# Altium footprint library ULN2803ADWR.PcbLib: 4 footprints
Each footprint in its own frame and in the unit in brackets; x right, y up, seen from the top. Pads: shape width x height; smd on the part's side, far side on the other; paste and mask are expansions set on the pad; w line width, h text height; cw(c..) or ccw(c..) is an arc to the next point about the centre after c.
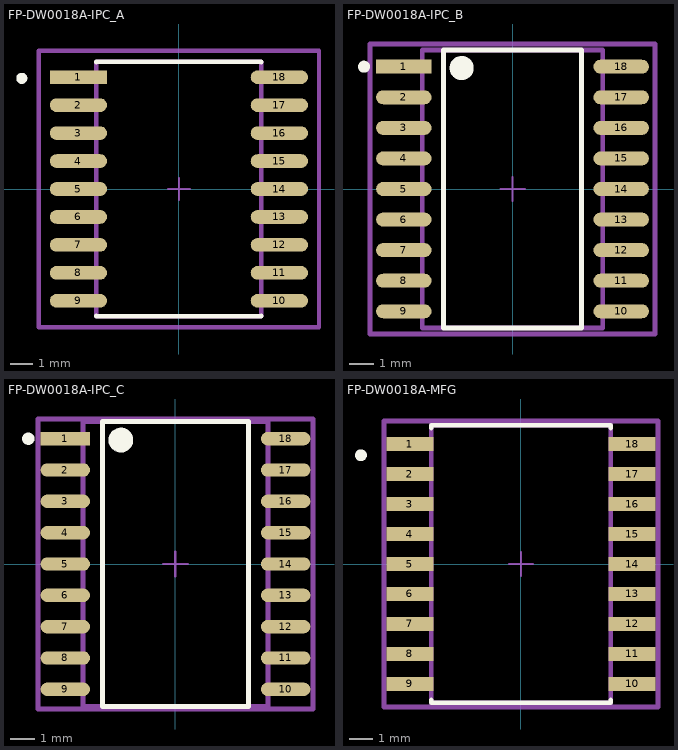
[diagram p0: the footprints below, top view; thin cyan lines are the x and y axes]

## FP-DW0018A-IPC_A [mil]
pads (18):
  rect 102.47x24.49 smd paste+0 mask+0: 1(-179.74,200)
  rrect100% 102.47x24.49 smd paste+0 mask+0: 2(-179.74,150) 3(-179.74,100) 4(-179.74,50) 5(-179.74,0) 6(-179.74,-50) 7(-179.74,-100) 8(-179.74,-150) 9(-179.74,-200) 10(179.74,-200) 11(179.74,-150) 12(179.74,-100) 13(179.74,-50) 14(179.74,0) 15(179.74,50) 16(179.74,100) 17(179.74,150) 18(179.74,200)
Top Overlay:
  circle w9.84: c-281.18,198.03 r4.92
  lines w7.87: -147.64,-227.01 -147.64,-227.36 147.64,-227.36 147.64,-227.01 ; -147.64,227.01 -147.64,227.36 147.64,227.36 147.64,227.01
Top Assembly:
  lines w7.87: -250.66,-247.05 250.66,-247.05 250.66,247.05 -250.66,247.05 -250.66,-247.05
  text ".Designator" at 0,7.4 h39.37
Top 3D Body:
  lines w7.87: -147.64,-227.36 147.64,-227.36 147.64,227.36 -147.64,227.36 -147.64,-227.36
Top Courtyard:
  lines w7.87: -250.66,-247.05 250.66,-247.05 250.66,247.05 -250.66,247.05 -250.66,-247.05
Top Component Center:
  lines w3.94: -19.68,0 19.68,0 ; 0,-19.68 0,19.68
3D body "IC_Texas_Instruments_ULN2803ADWRG4_eec.STEP": height 10, standoff 0, extent -250.66,-247.05 250.66,247.05

## FP-DW0018A-IPC_B [mil]
pads (18):
  rect 90.66x22.92 smd paste+0 mask+0: 1(-177.78,200)
  rrect100% 90.66x22.92 smd paste+0 mask+0: 2(-177.78,150) 3(-177.78,100) 4(-177.78,50) 5(-177.78,0) 6(-177.78,-50) 7(-177.78,-100) 8(-177.78,-150) 9(-177.78,-200) 10(177.78,-200) 11(177.78,-150) 12(177.78,-100) 13(177.78,-50) 14(177.78,0) 15(177.78,50) 16(177.78,100) 17(177.78,150) 18(177.78,200)
Top Overlay:
  circle w19.68: c-83.23,197.83 r9.84
  circle w9.84: c-242.79,200 r4.92
  lines w7.87: -112.76,-227.36 112.76,-227.36 112.76,227.36 -112.76,227.36 -112.76,-227.36
Top Assembly:
  lines w7.87: -232.95,-237.2 232.95,-237.2 232.95,237.2 -232.95,237.2 -232.95,-237.2
  text ".Designator" at 0,7.4 h39.37
Top 3D Body:
  lines w7.87: -147.64,-227.36 147.64,-227.36 147.64,227.36 -147.64,227.36 -147.64,-227.36
Top Courtyard:
  lines w7.87: -232.95,-237.2 232.95,-237.2 232.95,237.2 -232.95,237.2 -232.95,-237.2
Top Component Center:
  lines w3.94: -19.68,0 19.68,0 ; 0,-19.68 0,19.68
3D body "IC_Texas_Instruments_ULN2803ADWRG4_eec.STEP": height 10, standoff 0, extent -232.95,-237.2 232.95,237.2

## FP-DW0018A-IPC_C [mil]
pads (18):
  rect 78.85x21.34 smd paste+0 mask+0: 1(-175.81,200)
  rrect100% 78.85x21.34 smd paste+0 mask+0: 2(-175.81,150) 3(-175.81,100) 4(-175.81,50) 5(-175.81,0) 6(-175.81,-50) 7(-175.81,-100) 8(-175.81,-150) 9(-175.81,-200) 10(175.81,-200) 11(175.81,-150) 12(175.81,-100) 13(175.81,-50) 14(175.81,0) 15(175.81,50) 16(175.81,100) 17(175.81,150) 18(175.81,200)
Top Overlay:
  circle w19.68: c-87.17,197.83 r9.84
  circle w9.84: c-234.92,200 r4.92
  lines w7.87: -116.7,-227.36 116.7,-227.36 116.7,227.36 -116.7,227.36 -116.7,-227.36
Top Assembly:
  lines w7.87: -219.17,-231.3 219.17,-231.3 219.17,231.3 -219.17,231.3 -219.17,-231.3
  text ".Designator" at 0,7.4 h39.37
Top 3D Body:
  lines w7.87: -147.64,-227.36 147.64,-227.36 147.64,227.36 -147.64,227.36 -147.64,-227.36
Top Courtyard:
  lines w7.87: -219.17,-231.3 219.17,-231.3 219.17,231.3 -219.17,231.3 -219.17,-231.3
Top Component Center:
  lines w3.94: -19.68,0 19.68,0 ; 0,-19.68 0,19.68
3D body "IC_Texas_Instruments_ULN2803ADWRG4_eec.STEP": height 10, standoff 0, extent -219.17,-231.3 219.17,231.3

## FP-DW0018A-MFG [mm]
pads (18):
  rect 2x0.6 smd paste-1000 mask+0: 1(-4.7,5.08) 2(-4.7,3.81) 3(-4.7,2.54) 4(-4.7,1.27) 5(-4.7,0) 6(-4.7,-1.27) 7(-4.7,-2.54) 8(-4.7,-3.81) 9(-4.7,-5.08) 10(4.7,-5.08) 11(4.7,-3.81) 12(4.7,-2.54) 13(4.7,-1.27) 14(4.7,0) 15(4.7,1.27) 16(4.7,2.54) 17(4.7,3.81) 18(4.7,5.08)
Top Overlay:
  circle w0.25: c-6.775,4.605 r0.125
  lines w0.2: -3.8,-5.755 -3.8,-5.875 3.8,-5.875 3.8,-5.755 ; -3.8,5.755 -3.8,5.875 3.8,5.875 3.8,5.755
Top Paste:
  rectangle: 3.725,-5.355 5.675,-4.805
  rectangle: 3.725,-4.085 5.675,-3.535
  rectangle: 3.725,-2.815 5.675,-2.265
  rectangle: 3.725,-1.545 5.675,-0.995
  rectangle: 3.725,-0.275 5.675,0.275
  rectangle: 3.725,0.995 5.675,1.545
  rectangle: 3.725,2.265 5.675,2.815
  rectangle: 3.725,3.535 5.675,4.085
  rectangle: 3.725,4.805 5.675,5.355
  rectangle: -5.675,-5.355 -3.725,-4.805
  rectangle: -5.675,-4.085 -3.725,-3.535
  rectangle: -5.675,-2.815 -3.725,-2.265
  rectangle: -5.675,-1.545 -3.725,-0.995
  rectangle: -5.675,-0.275 -3.725,0.275
  rectangle: -5.675,0.995 -3.725,1.545
  rectangle: -5.675,2.265 -3.725,2.815
  rectangle: -5.675,3.535 -3.725,4.085
  rectangle: -5.675,4.805 -3.725,5.355
Top Assembly:
  lines w0.2: -5.8,-6.05 5.8,-6.05 5.8,6.05 -5.8,6.05 -5.8,-6.05
  text ".Designator" at 0,0.188 h1
Top 3D Body:
  lines w0.2: -3.8,-5.875 3.8,-5.875 3.8,5.875 -3.8,5.875 -3.8,-5.875
Top Courtyard:
  lines w0.2: -5.8,-6.05 5.8,-6.05 5.8,6.05 -5.8,6.05 -5.8,-6.05
Top Component Center:
  lines w0.1: -0.5,0 0.5,0 ; 0,-0.5 0,0.5
3D body "IC_Texas_Instruments_ULN2803ADWRG4_eec.STEP": height 0.25, standoff 0, extent -5.8,-6.05 5.8,6.05